# Altium footprint library LED_0402_GREEN.PcbLib: 1 footprints
Each footprint in its own frame and in the unit in brackets; x right, y up, seen from the top. Pads: shape width x height; smd on the part's side, far side on the other; paste and mask are expansions set on the pad; w line width, h text height; cw(c..) or ccw(c..) is an arc to the next point about the centre after c.
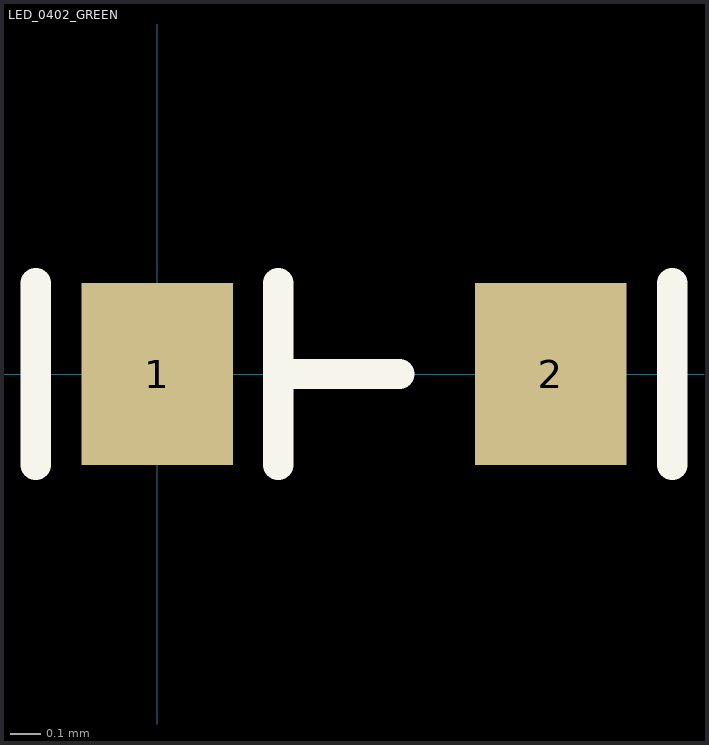
[diagram p0: the footprint, top view; thin cyan lines are the x and y axes]

## LED_0402_GREEN [mm]
pads (2):
  rect 0.5x0.6 smd: 1(0,0) 2(1.3,0)
Top Overlay:
  lines w0.1: -0.4,-0.3 -0.4,0.3 ; 0.4,-0.3 0.4,0.3 ; 0.4,0 0.8,0 ; 1.7,-0.3 1.7,0.3
3D body "LED_0402_G.STEP": height 0.2, standoff 0, extent 0.2,-0.3 1.2,0.3